# Altium footprint library PcbLib1.PcbLib: 264 footprints (part 17 of 17)
Each footprint in its own frame and in the unit in brackets; x right, y up, seen from the top. Pads: shape width x height; smd on the part's side, far side on the other; paste and mask are expansions set on the pad; w line width, h text height; cw(c..) or ccw(c..) is an arc to the next point about the centre after c.
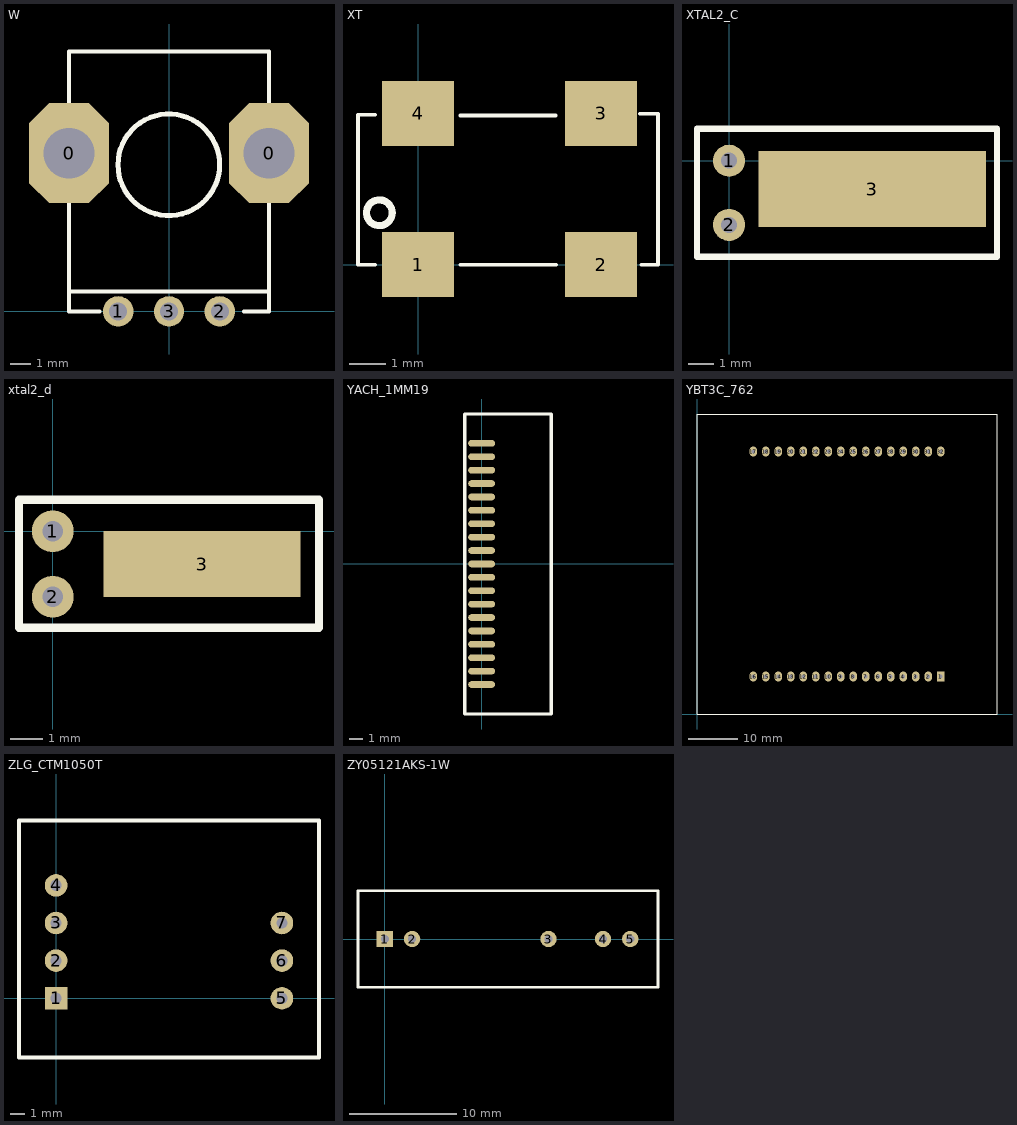
[diagram p16: the footprints below, top view; thin cyan lines are the x and y axes]

## W [mm]
pads (5):
  oct 4x5 hole 2.54: 0(-5,7.91) 0(5,7.91)
  round 1.524 hole 0.9: 1(-2.54,0) 2(2.54,0) 3(0,0)
Top Overlay:
  circle w0.254: c-0.01,7.33 r2.54
  lines w0.2: -5,1 5,1 ; -3.47,0 -5,0 -5,13 5,13 5,0 3.75,0

## XT [mm]
pads (4):
  rect 2x1.8 smd: 1(0,0) 2(5.08,0) 3(5.08,4.2) 4(0,4.2)
Top Overlay:
  circle w0.2: c-1.077,1.44 r0.357
  lines w0.1: -1.19,0 -1.67,0 -1.67,4.16 -1.19,4.16 ; 1.17,0 3.83,0 ; 1.17,4.14 3.82,4.14 ; 6.16,4.19 6.66,4.19 6.66,0 6.19,0

## XTAL2_C [mm]
pads (3):
  round 1.27 hole 0.635: 1(0,0) 2(0,-2.54)
  rect 9x3 smd: 3(5.67,-1.12)
Top Overlay:
  lines w0.254: 10.61,-3.55 10.61,1.27 ; 10.61,-3.81 10.61,1.27 ; 10.61,-3.81 10.61,-3.81 ; 10.61,-3.81 -1.27,-3.81 -1.27,1.27 10.61,1.27

## xtal2_d [mm]
pads (3):
  round 1.27 hole 0.635: 1(0,0) 2(0,-2)
  rect 6x2 smd: 3(4.55,-1)
Top Overlay:
  lines w0.254: -1.03,-2.94 8.11,-2.94 8.11,0.96 -1.03,0.96 -1.03,-2.94

## YACH_1MM19 [mm]
pads (19):
  oval 2x0.5 smd: 1(0,9) 2(0,8) 3(0,7) 4(0,6) 5(0,5) 6(0,4) 7(0,3) 8(0,2) 9(0,1) 10(0,0) 11(0,-1) 12(0,-2) 13(0,-3) 14(0,-4) 15(0,-5) 16(0,-6) 17(0,-7) 18(0,-8) 19(0,-9)
Top Overlay:
  lines w0.254: -1.25,-11.2 5.19,-11.2 5.19,11.19 -1.25,11.19 -1.25,-11.2

## YBT3C_762 [mil]
pads (32):
  rect 60x80 hole 30: 1(1950,300)
  oval 60x80 hole 30: 2(1850,300) 3(1750,300) 4(1650,300) 5(1550,300) 6(1450,300) 7(1350,300) 8(1250,300) 9(1150,300) 10(1050,300) 11(950,300) 12(850,300) 13(750,300) 14(650,300) 15(550,300) 16(450,300) 17(450,2100) 18(550,2100) 19(650,2100) 20(750,2100) 21(850,2100) 22(950,2100) 23(1050,2100) 24(1150,2100) 25(1250,2100) 26(1350,2100) 27(1450,2100) 28(1550,2100) 29(1650,2100) 30(1750,2100) 31(1850,2100) 32(1950,2100)
Top Overlay:
  lines w10: 0,0 0,2400 2400,2400 2400,0 0,0

## ZLG_CTM1050T [mil]
pads (7):
  rect 60x60 hole 30: 1(0,0)
  round 60 hole 30: 2(0,100) 3(0,200) 4(0,300) 5(600,0) 6(600,100) 7(600,200)
Top Overlay:
  lines w10: -98.43,-157.48 698.43,-157.48 698.43,472.44 -98.43,472.44 -98.43,-157.48

## ZY05121AKS-1W [mil]
pads (5):
  rect 60x60 hole 30: 1(0,0)
  round 60 hole 30: 2(100,0) 3(600,0) 4(800,0) 5(900,0)
Top Overlay:
  lines w10: -98.43,-177.17 -98.43,177.17 1001.57,177.17 1001.57,-177.17 -98.43,-177.17